# EAGLE library part AS-ITM-00116 (library tinycircuits)
Light-To-Digital Converter, TSL2572
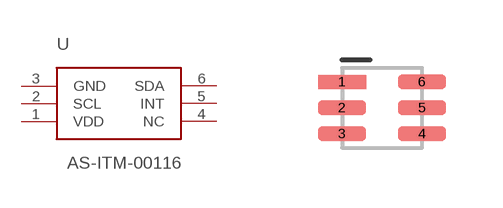
[diagram p47: symbol with the pads of TSL2572; footprint TSL2572]

Designator prefix U

## AS-ITM-00116 (PARTNO: AS-ITM-00116; VALUE: TSL2572)  [TSL2572]
1  VDD
2  SCL
3  GND
4  NC
5  INT
6  SDA

## Footprint TSL2572 (pad centres in mm)
smd 1.2 x 0.35: 1 -1,0.65; 2 -1,0; 3 -1,-0.65; 4 1,-0.65; 5 1,0; 6 1,0.65